# EAGLE library part CONN-2X5-BLASTER (library QuantumOptics)
Connector, 2 rows of 5 for ByteBlaster, USBBlaster or MasterBlaster, on 0.1" grid, pins numbering zig-zags top-left to bottom-right.
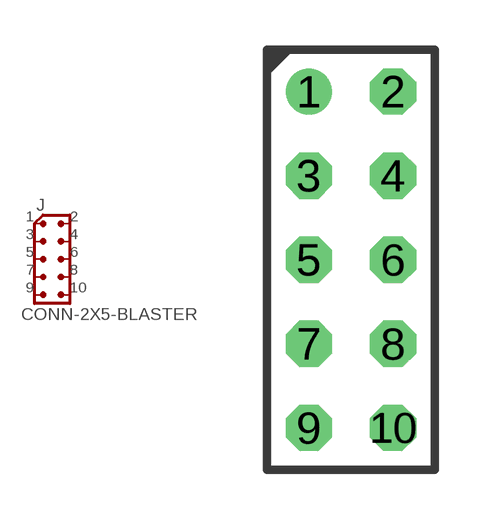
[diagram p40: symbol with the pads of CONN-2X5-BLASTER; footprint CONN-2X5-BLASTER]

Designator prefix J

## CONN-2X5-BLASTER  [CONN-2X5-BLASTER]
1  1
2  2
3  3
4  4
5  5
6  6
7  7
8  8
9  9
10  10

## Footprint CONN-2X5-BLASTER (pad centres in mm)
Connector, 2 rows of 5 for ByteBlaster, USBBlaster or MasterBlaster, on 0.1" grid, pins numbering zig-zags top-left to bottom-right.
drill 0.889: 1 0,5.08
drill 0.889 octagon: 2 2.54,5.08; 3 0,2.54; 4 2.54,2.54; 5 0,0; 6 2.54,0; 7 0,-2.54; 8 2.54,-2.54; 9 0,-5.08; 10 2.54,-5.08